# EAGLE library part PMIC_AXP717C (library !GPLIB_ACTIVE)
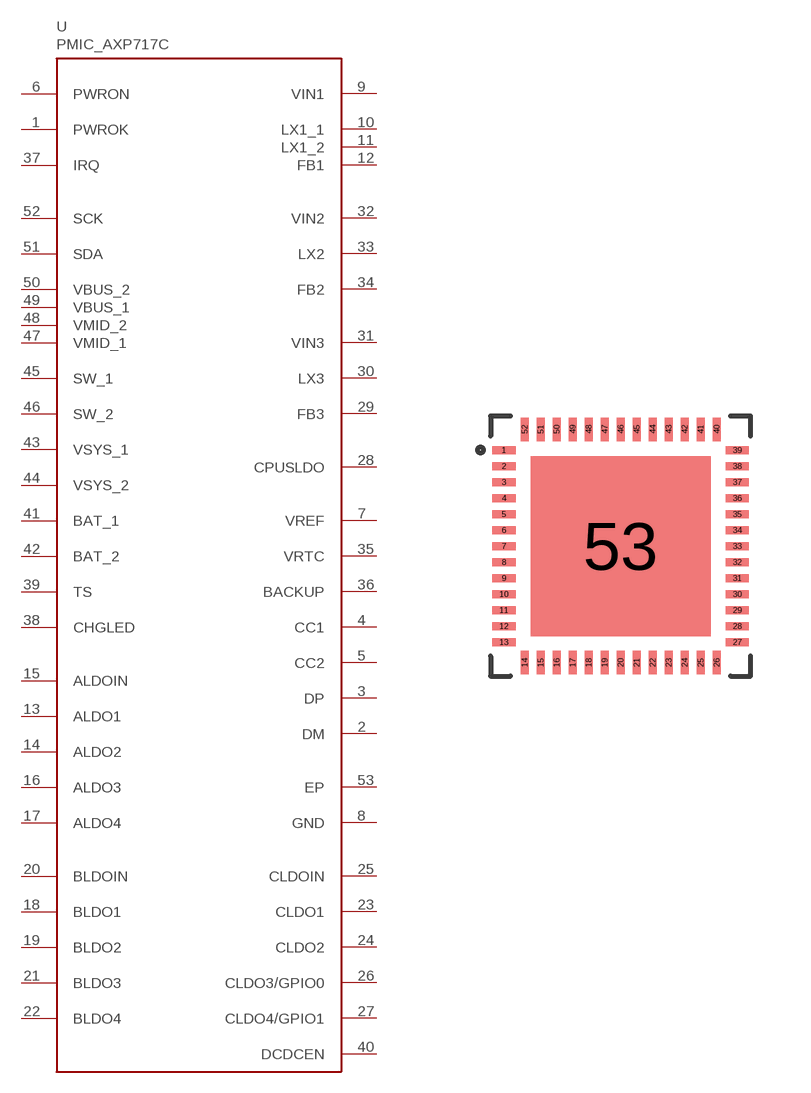
[diagram p84: symbol with the pads of QFN-52_L6.0-W6.0-P0.40-TL-EP4.5; footprint QFN-52_L6.0-W6.0-P0.40-TL-EP4.5]

Designator prefix U

## PMIC_AXP717C  [QFN-52_L6.0-W6.0-P0.40-TL-EP4.5]
1  PWROK
2  DM
3  DP
4  CC1
5  CC2
6  PWRON
7  VREF
8  GND
9  VIN1
10  LX1_1
11  LX1_2
12  FB1
13  ALDO1
14  ALDO2
15  ALDOIN
16  ALDO3
17  ALDO4
18  BLDO1
19  BLDO2
20  BLDOIN
21  BLDO3
22  BLDO4
23  CLDO1
24  CLDO2
25  CLDOIN
26  CLDO3/GPIO0
27  CLDO4/GPIO1
28  CPUSLDO
29  FB3
30  LX3
31  VIN3
32  VIN2
33  LX2
34  FB2
35  VRTC
36  BACKUP
37  IRQ
38  CHGLED
39  TS
40  DCDCEN
41  BAT_1
42  BAT_2
43  VSYS_1
44  VSYS_2
45  SW_1
46  SW_2
47  VMID_1
48  VMID_2
49  VBUS_1
50  VBUS_2
51  SDA
52  SCK
53  EP

## Footprint QFN-52_L6.0-W6.0-P0.40-TL-EP4.5 (pad centres in mm)
smd 0.585 x 0.2: 1 -2.917,2.4; 2 -2.917,2; 3 -2.917,1.6; 4 -2.917,1.2; 5 -2.917,0.8; 6 -2.917,0.4; 7 -2.917,0; 8 -2.917,-0.4; 9 -2.917,-0.8; 10 -2.917,-1.2; 11 -2.917,-1.6; 12 -2.917,-2; 13 -2.917,-2.4; 27 2.917,-2.4; 28 2.917,-2; 29 2.917,-1.6; 30 2.917,-1.2; 31 2.917,-0.8; 32 2.917,-0.4; 33 2.917,0; 34 2.917,0.4; 35 2.917,0.8; 36 2.917,1.2; 37 2.917,1.6; 38 2.917,2; 39 2.917,2.4
smd 0.2 x 0.585: 14 -2.4,-2.917; 15 -2,-2.917; 16 -1.6,-2.917; 17 -1.2,-2.917; 18 -0.8,-2.917; 19 -0.4,-2.917; 20 0,-2.917; 21 0.4,-2.917; 22 0.8,-2.917; 23 1.2,-2.917; 24 1.6,-2.917; 25 2,-2.917; 26 2.4,-2.917; 40 2.4,2.917; 41 2,2.917; 42 1.6,2.917; 43 1.2,2.917; 44 0.8,2.917; 45 0.4,2.917; 46 0,2.917; 47 -0.4,2.917; 48 -0.8,2.917; 49 -1.2,2.917; 50 -1.6,2.917; 51 -2,2.917; 52 -2.4,2.917
smd 4.5 x 4.5: 53 0,0